# Altium footprint library PcbLib1.PcbLib: 15 footprints
Each footprint in its own frame and in the unit in brackets; x right, y up, seen from the top. Pads: shape width x height; smd on the part's side, far side on the other; paste and mask are expansions set on the pad; w line width, h text height; cw(c..) or ccw(c..) is an arc to the next point about the centre after c.
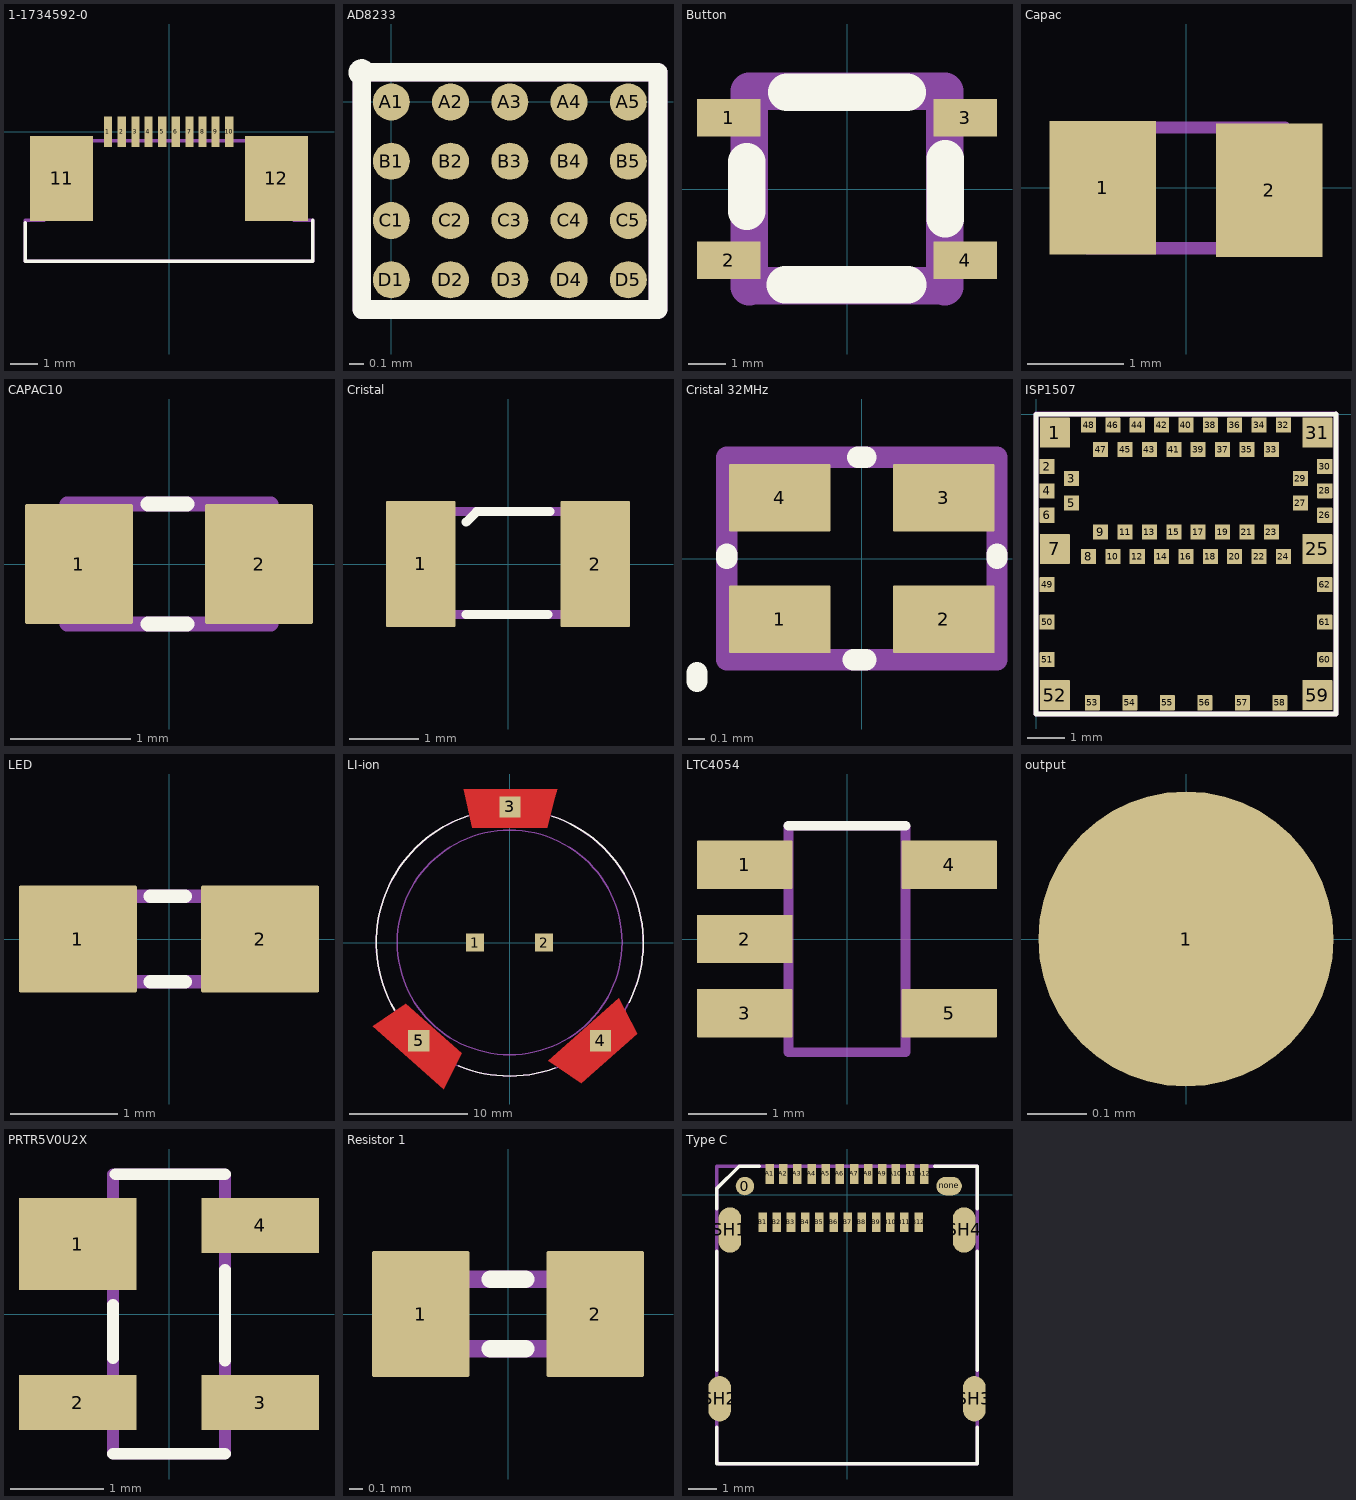
[diagram p0: the footprints below, top view; thin cyan lines are the x and y axes]

## 1-1734592-0 [mm]
pads (12):
  rect 0.3x1.1 smd: 1(-2.225,0) 2(-1.725,0) 3(-1.225,0) 4(-0.75,0) 5(-0.25,0) 6(0.25,0) 7(0.75,0) 8(1.225,0) 9(1.7,0) 10(2.2,0)
  rect 2.3x3.1 smd: 11(-3.92,-1.7) 12(3.92,-1.7)
Top Overlay:
  lines w0.127: -5.25,-3.325 -5.25,-4.725 5.25,-4.725 5.25,-3.225
Mechanical 1:
  lines w0.127: -5.25,-4.725 -5.25,-3.275 -5.25,-3.225 -4.55,-3.225 -4.55,-0.325 0,-0.325 4.55,-0.325 4.55,-3.225 5.225,-3.225 ; -5.225,-4.725 5.25,-4.725 5.25,-3.225

## AD8233 [mm]
pads (20):
  round 0.25 smd: A1(0,0) A2(0.4,0) A3(0.8,0) A4(1.2,0) A5(1.6,0) B1(0,-0.4) B2(0.4,-0.4) B3(0.8,-0.4) B4(1.2,-0.4) B5(1.6,-0.4) C1(0,-0.8) C2(0.4,-0.8) C3(0.8,-0.8) C4(1.2,-0.8) C5(1.6,-0.8) D1(0,-1.2) D2(0.4,-1.2) D3(0.8,-1.2) D4(1.2,-1.2) D5(1.6,-1.2)
Top Overlay:
  circle w0.127: c-0.2,0.2 r0.025
  lines w0.127: -0.2,-1.4 -0.2,0.2 1.8,0.2 1.8,-1.4 -0.2,-1.4
Mechanical 1:
  lines w0.127: -0.2,-1.4 -0.2,0.2 1.8,0.2 1.8,-1.4 -0.2,-1.4

## Button [mm]
pads (4):
  rect 1.7x1 smd: 1(-3.15,1.9) 2(-3.15,-1.9) 3(3.15,1.9) 4(3.15,-1.9)
Top Overlay:
  lines w1: -2.675,-0.6 -2.675,0.725 ; -1.65,-2.55 1.625,-2.55 ; -1.6,2.575 1.6,2.575 ; 2.625,-0.8 2.625,0.8
Mechanical 1:
  lines w1: -2.6,-2.6 -2.575,-2.575 2.575,-2.575 2.6,-2.6 2.6,2.6 0,2.6 -2.6,2.6 -2.6,-2.6
3D body "TL3342F160QG--3DModel-STEP-56544.STEP": height 1.45, standoff -0.05, extent -3.3,-2.475 3.3,2.525

## Capac [mm]
pads (2):
  rect 1.1x1.38 smd: 1(-0.863,0) 2(0.863,-0.025)
Mechanical 1:
  lines w0.127: -1.025,-0.625 1.025,-0.625 1.025,0.625 0,0.625 -1.025,0.625 -1.025,-0.625
3D body "GCJ21BR71H683KA01L--3DModel-STEP-56544.STEP": height 1.43, standoff -0.02, extent -1,-0.625 1,0.625

## CAPAC10 [mm]
pads (2):
  rrect3% 0.9x1 smd: 1(-0.75,0) 2(0.75,0)
Top Overlay:
  lines w0.127: -0.175,-0.5 0.15,-0.5 ; -0.175,0.5 0.15,0.5
Mechanical 4:
  lines w0.127: -0.85,-0.5 -0.85,0.5 0,0.5 0.85,0.5 0.85,-0.5 -0.85,-0.5
3D body "GRM188D70J106MA73D--3DModel-STEP-1.STEP": height 1, standoff 0, extent -0.8,-0.4 0.8,0.4

## Cristal [mm]
pads (2):
  rrect3% 1x1.8 smd: 1(-1.25,0) 2(1.25,0)
Top Overlay:
  lines w0.127: -0.6,-0.725 0.575,-0.725 ; -0.6,0.6 -0.45,0.75 0.6,0.75
Mechanical 1:
  lines w0.127: -1.6,-0.7 -1.6,0.725 -1.575,0.75 0,0.75 1.525,0.75 1.525,-0.725 -1.575,-0.725 -1.6,-0.7
3D body "ECS-.327-12.5-34B-C-TR--3DModel-STEP-40055.STEP": height 0.9, standoff 0, extent -1.6,-0.75 1.6,0.75

## Cristal 32MHz [mm]
pads (4):
  rrect3% 0.6x0.4 smd: 1(-0.485,-0.36) 2(0.485,-0.36) 3(0.485,0.36) 4(-0.485,0.36)
Top Overlay:
  lines w0.127: -0.975,-0.725 -0.975,-0.675 ; -0.8,0 -0.8,0.025 ; -0.05,-0.6 0.025,-0.6 ; -0.025,0.6 0.025,0.6 ; 0.8,0 0.8,0.025
Mechanical 1:
  lines w0.127: -0.8,-0.6 0.8,-0.6 0.8,0.6 0,0.6 -0.8,0.6 -0.8,-0.6
3D body "416F24022IKR--3DModel-STEP-1.STEP": height 0.42, standoff -0.03, extent -0.8,-0.6 0.8,0.6

## ISP1507 [mil]
pads (62):
  rrect3% 31.5x31.5 smd mask-15.75: 1(19.69,-19.68) 7(19.69,-141.73) 25(295.28,-141.73) 31(295.28,-19.68) 52(19.69,-295.27) 59(295.28,-295.27)
  rrect3% 15.75x15.75 smd mask-7.88: 2(11.81,-55.12) 3(37.4,-67.91) 4(11.81,-80.71) 5(37.4,-93.5) 6(11.81,-106.3) 8(55.12,-149.61) 9(67.91,-124.02) 10(80.71,-149.61) 11(93.5,-124.02) 12(106.3,-149.61) 13(119.09,-124.02) 14(131.89,-149.61) 15(144.69,-124.02) 16(157.48,-149.61) 17(170.28,-124.02) 18(183.07,-149.61) 19(195.87,-124.02) 20(208.66,-149.61) 21(221.46,-124.02) 22(234.25,-149.61) 23(247.05,-124.02) 24(259.84,-149.61) 26(303.15,-106.3) 27(277.56,-93.5) 28(303.15,-80.71) 29(277.56,-67.91) 30(303.15,-55.12) 32(259.84,-11.81) 33(247.05,-37.4) 34(234.25,-11.81) 35(221.46,-37.4) 36(208.66,-11.81) 37(195.87,-37.4) 38(183.07,-11.81) 39(170.28,-37.4) 40(157.48,-11.81) 41(144.69,-37.4) 42(131.89,-11.81) 43(119.09,-37.4) 44(106.3,-11.81) 45(93.5,-37.4) 46(80.71,-11.81) 47(67.91,-37.4) 48(55.12,-11.81) 49(11.81,-179.13) 50(11.81,-218.5) 51(11.81,-257.87) 53(59.06,-303.15) 54(98.43,-303.15) 55(137.8,-303.15) 56(177.17,-303.15) 57(216.54,-303.15) 58(255.91,-303.15) 60(303.15,-257.87) 61(303.15,-218.5) 62(303.15,-179.13)
Top Overlay:
  lines w5: 0,-314.96 314.96,-314.96 314.96,0 314.61,-0.35 0,-0.35 0,-314.96
Top Solder:
  drawing of 62 lines, arcs and shapes, not listed
Mechanical 1:
  lines w5: 0,-314.96 314.96,-314.96 314.96,0 0,0 0,-314.96
Mechanical 2:
  circle w1.97: c19.69,-19.68 r9.84
3D body "ISP1507-AX--3DModel-STEP-56544.STEP": height 38.31, standoff -1.06, extent 0,-314.96 314.96,0

## LED [mm]
pads (2):
  rrect3% 1.1x1 smd: 1(-0.85,0) 2(0.85,0)
Top Overlay:
  lines w0.127: -0.175,-0.4 0.15,-0.4 ; -0.175,0.4 0.15,0.4
Mechanical 1:
  lines w0.127: -0.8,-0.4 -0.8,0.4 0,0.4 0.775,0.4 0.8,0.375 0.8,-0.4 -0.8,-0.4
3D body "LTST-S270GKT--3DModel-STEP-56544.STEP": height 1.1, standoff -0.05, extent -0.8,-0.3 0.8,0.3

## LI-ion [mm]
pads (5):
  rect 1.52x1.52 smd: 1(-2.925,0) 2(2.925,0)
  rect 1.8x1.8 smd: 3(0.025,11.5) 4(7.7,-8.3) 5(-7.7,-8.3)
Top Layer:
  region: -11.606,-7.084 -5.599,-12.398 -4.038,-9.374 -8.794,-5.166
  region: 3.26,-10.011 9.267,-4.696 10.828,-7.721 6.072,-11.929
  region: -3.875,13.025 4.025,13.025 3.75,11.975 3.175,9.75 -3.175,9.75
Top Overlay:
  lines w0.127: -9.756,-5.712 cw(c0,0) -3.522,10.743 ; -4.34,-10.439 ccw(c0,0) 3.879,-10.619 ; 3.571,10.735 cw(c0.025,0) 10.117,-5.095
Mechanical 1:
  circle w0.127: c0,0.025 r9.525
  lines w0.127: 11.304,-0.177 cw(c0,0) 11.304,-0.175
3D body "BC-2600--3DModel-STEP-1.STEP": height 4.65, standoff 0, extent -11.305,-11.371 11.305,12.7

## LTC4054 [mm]
pads (5):
  rrect3% 1.22x0.62 smd: 1(-1.31,0.95) 2(-1.31,0) 3(-1.31,-0.95) 4(1.31,0.95) 5(1.31,-0.95)
Top Overlay:
  lines w0.127: -0.75,1.45 0.75,1.45
Mechanical 1:
  lines w0.127: -0.75,-1.45 -0.75,1.45 0,1.45 0.725,1.45 0.75,1.425 0.75,-1.45 -0.75,-1.45
3D body "LT1761ES5-1.8#TRMPBF--3DModel-STEP-56544.STEP": height 0.9, standoff -0.1, extent -1.4,-1.45 1.4,1.45

## output [mm]
pads (1):
  round 0.5 all layers, no hole: 1(0,0)

## PRTR5V0U2X [mm]
pads (4):
  rect 1.26x0.99 smd: 1(-0.98,0.75)
  rect 1.26x0.59 smd: 2(-0.98,-0.95) 3(0.98,-0.95) 4(0.98,0.95)
Top Overlay:
  lines w0.127: -0.6,-1.5 0.6,-1.5 ; -0.6,-0.475 -0.6,0.1 ; -0.575,1.5 0.6,1.5 ; 0.6,-0.5 0.6,0.475
Mechanical 1:
  lines w0.127: -0.6,-1.5 -0.6,1.5 0,1.5 0.6,1.5 0.6,-1.5 -0.6,-1.5 ; -0.6,-1.5 -0.6,-1.5

## Resistor 1 [mm]
pads (2):
  rrect3% 0.7x0.9 smd: 1(-0.625,0) 2(0.625,0)
Top Overlay:
  lines w0.127: -0.125,-0.25 0.125,-0.25 ; -0.125,0.25 0.125,0.25
Mechanical 1:
  lines w0.127: -0.5,-0.25 0.5,-0.25 0.5,0.25 0,0.25 -0.5,0.25 -0.5,-0.25
3D body "RUT1005FR100CS--3DModel-STEP-46669.STEP": height 0.38, standoff -0.02, extent -0.5,-0.25 0.5,0.25

## Type C [mm]
pads (30):
  round 0.65 all layers, no hole: 0(-3.6,0.3)
  rect 0.3x0.7 smd: A1(-2.725,0.725) A2(-2.25,0.725) A3(-1.75,0.725) A4(-1.25,0.725) A5(-0.75,0.725) A6(-0.25,0.725) A7(0.25,0.725) A8(0.75,0.725) A9(1.25,0.725) A10(1.725,0.725) A11(2.225,0.725) A12(2.725,0.725) B1(-2.975,-0.975) B2(-2.475,-0.975) B3(-1.975,-0.975) B4(-1.475,-0.975) B5(-0.975,-0.975) B6(-0.475,-0.975) B7(0.025,-0.975) B8(0.525,-0.975) B9(1.025,-0.975) B10(1.525,-0.975) B11(2.025,-0.975) B12(2.525,-0.975)
  oval 0.9x0.65 all layers, no hole: none(3.6,0.3)
  oval 0.8x1.6 all layers, no hole: SH1(-4.13,-1.25) SH2(-4.49,-7.2) SH3(4.49,-7.2) SH4(4.13,-1.25)
Top Overlay:
  lines w0.127: -4.6,-8.2 -4.6,-9.5 4.6,-9.5 4.6,-8.2 ; -4.6,-6.2 -4.6,-2 ; -4.6,-0.5 -4.6,0.2 -3.8,1 -3.1,1 ; 3.1,1 4.6,1 4.6,-0.5 ; 4.6,-6.2 4.6,-2
Mechanical 1:
  lines w0.127: -4.6,-9.4 -4.6,1 4.6,1 4.6,-9.5 -4.5,-9.5 -4.6,-9.4
3D body "12401598E4#2A--3DModel-STEP-56544.STEP": height 3.18, standoff -2.2, extent -4.6,-9.3 4.6,1.2